# Altium footprint library 3415.PcbLib: 1 footprints
Each footprint in its own frame and in the unit in brackets; x right, y up, seen from the top. Pads: shape width x height; smd on the part's side, far side on the other; paste and mask are expansions set on the pad; w line width, h text height; cw(c..) or ccw(c..) is an arc to the next point about the centre after c.
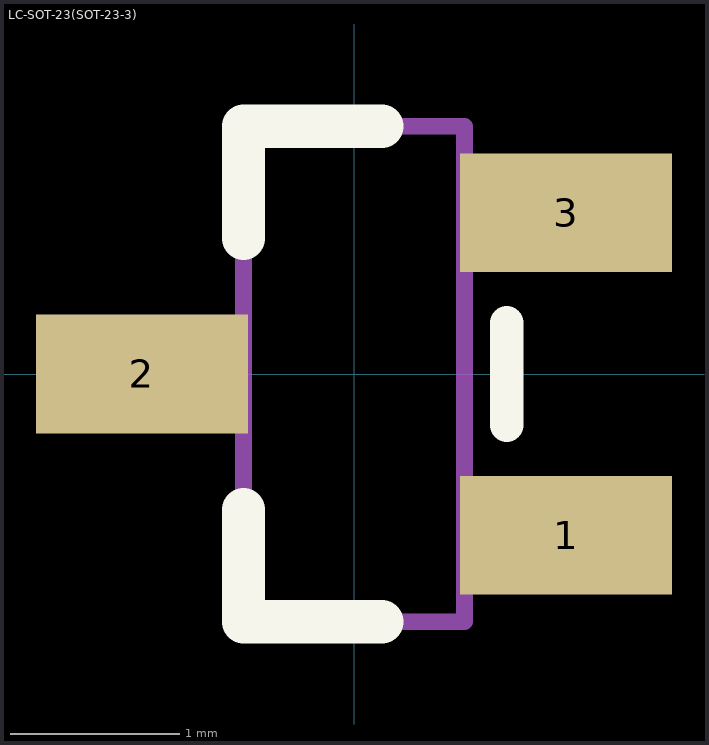
[diagram p0: the footprint, top view; thin cyan lines are the x and y axes]

## LC-SOT-23(SOT-23-3) [mm]
pads (3):
  rect 1.25x0.7 smd: 1(1.25,-0.95) 2(-1.25,0) 3(1.25,0.95)
Top Overlay:
  lines w0.2: 0.9,-0.3 0.9,0.3
  lines w0.254: -0.65,-0.8 -0.65,-1.46 0.165,-1.46 ; 0.165,1.46 -0.65,1.46 ; -0.65,0.8 -0.65,1.46 ; -0.65,0.8 -0.65,1.46 ; -0.65,0.8 -0.65,1.46
Mechanical 13:
  lines w0.1: -0.65,-1.46 -0.65,1.46 ; -0.65,-1.46 0.65,-1.46 ; -0.65,-1.46 0.65,-1.46 ; -0.65,-1.46 -0.65,1.46 ; -0.65,-1.46 0.65,-1.46 ; -0.65,-1.46 -0.65,1.46 ; -0.65,1.46 0.65,1.46 ; -0.65,1.46 0.65,1.46 ; -0.65,1.46 0.65,1.46 ; 0.65,-1.46 0.65,1.46 ; 0.65,-1.46 0.65,1.46 ; 0.65,-1.46 0.65,1.46
3D body "SOT-23.step": height 1.3, standoff 0, extent -1.5,-1.5 1.5,1.5